# Altium footprint library SJ2-35355A.PcbLib: 1 footprints
Each footprint in its own frame and in the unit in brackets; x right, y up, seen from the top. Pads: shape width x height; smd on the part's side, far side on the other; paste and mask are expansions set on the pad; w line width, h text height; cw(c..) or ccw(c..) is an arc to the next point about the centre after c.
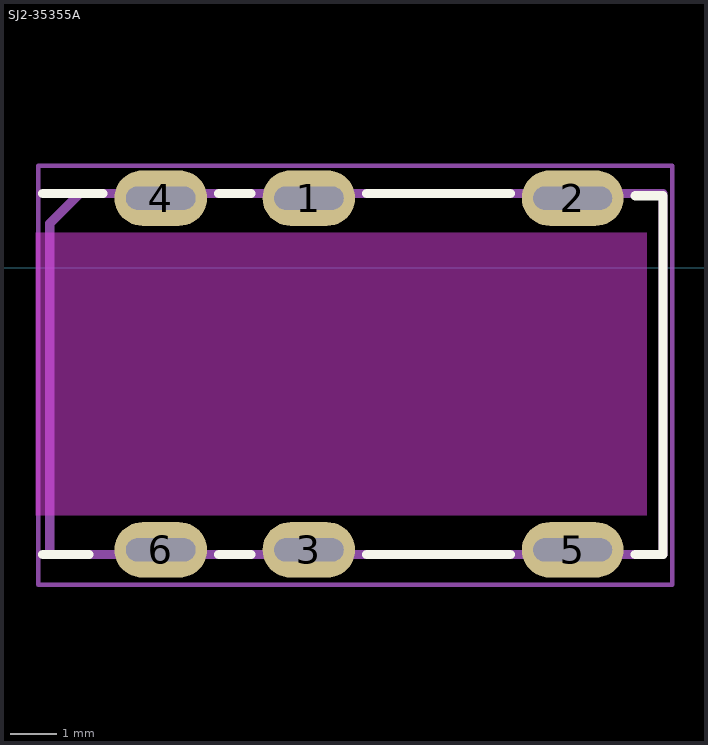
[diagram p0: the footprint, top view; thin cyan lines are the x and y axes]

## SJ2-35355A [mm]
pads (6):
  oval 2x1.2 hole 0.5 slot 1.5 at 0 deg mask+0: 1(-14.5,1.5) 3(-14.5,-6.1) 4(-17.7,1.5) 6(-17.7,-6.1)
  oval 2.2x1.2 hole 0.5 slot 1.7 at 0 deg mask+0: 2(-8.8,1.5) 5(-8.8,-6.1)
Top Overlay:
  lines w0.2: -20.25,-6.2 -19.25,-6.2 ; -20.25,1.6 -18.95,1.6 ; -16.45,-6.2 -15.75,-6.2 ; -16.45,1.6 -15.75,1.6 ; -13.25,-6.2 -10.15,-6.2 ; -13.25,1.6 -10.15,1.6 ; -7.45,-6.2 -6.85,-6.2 -6.85,1.55 -7.45,1.55
Top Paste:
  drawing of 6 lines, arcs and shapes, not listed
Keep-Out Layer:
  board cut-out: -7.2,-5.35 -7.2,0.75 -20.4,0.75 -20.4,-5.35
Mechanical 3:
  lines w0.2: -20.1,-6.2 -11.05,-6.2 -6.85,-6.2 -6.85,1.6 -19.45,1.6 -20.1,0.95 -20.1,-1.05 -20.1,-6.2
Mechanical 7:
  lines w0.1: -17.95,-6.85 -6.65,-6.85 -6.65,2.2 -20.35,2.2 -20.35,-6.85 -17.85,-6.85
Mechanical 9:
  text "'.Designator'" at -23.173,-2.694 h1.02
3D body "CUI_DEVICES_SJ2-35355A-SMT-TR.step": height 2.51, standoff -2.49, extent -22.65,-6.2 -8.15,1.6
3D body: height 2.1, standoff -2.1, extent -20.35,-6.85 -6.65,2.2